# Altium schematic symbol library 二极管.SCHLIB: 6 symbols
Pins are listed as number, name and electrical type; pins without a type are passive.

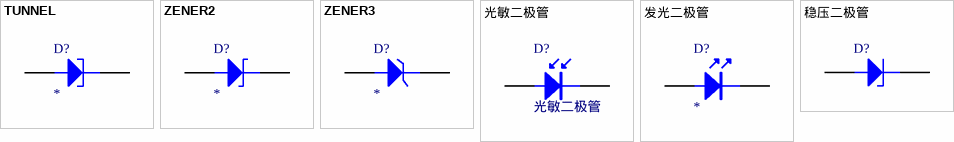
[diagram p0: symbols TUNNEL to 稳压二极管]

## TUNNEL
designator D?
Tunnel FDiode
pins: 1 A, 2 K

## ZENER2
designator D?
Zener Diode
pins: 1 A, 2 K

## ZENER3
designator D?
Zener Diode
pins: 1 A, 2 K

## 光敏二极管
designator D?
Photosensitive Diode
footprint 0805
footprint DIODE0.4A
pins: 1 A, 2 K

## 发光二极管
designator D?
footprint DIODE0.4A
footprint 0805
pins: A 1, K 2

## 稳压二极管
designator D?  (value not drawn)
Zener Diode
footprint DIODE0.4A
footprint 0805
pins: 1 A, 2 K